# Altium footprint library LS044Q7DH01_back.PcbLib: 1 footprints
Each footprint in its own frame and in the unit in brackets; x right, y up, seen from the top. Pads: shape width x height; smd on the part's side, far side on the other; paste and mask are expansions set on the pad; w line width, h text height; cw(c..) or ccw(c..) is an arc to the next point about the centre after c.
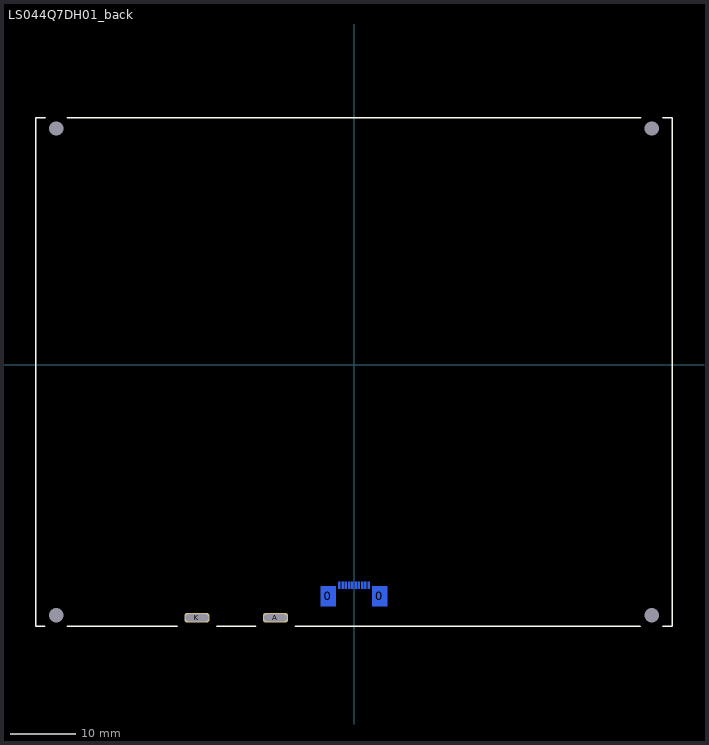
[diagram p0: the footprint, top view; thin cyan lines are the x and y axes]

## LS044Q7DH01_back [mm]
pads (18):
  rect 2.3x3.1 smd far side: 0(-3.92,-35.43) 0(3.92,-35.43)
  rect 0.3x1.1 smd far side mask+0.051: 1(2.25,-33.73) 2(1.75,-33.73) 3(1.25,-33.73) 4(0.75,-33.73) 5(0.25,-33.73) 6(-0.25,-33.73) 7(-0.75,-33.73) 8(-1.25,-33.73) 9(-1.75,-33.73) 10(-2.25,-33.73)
  rrect50% 3.86x1.4 / inner rrect50% 3.86x1.4 / far side rect 5x3 hole 1 slot 3.5 at 0 deg: A(-12,-38.7) K(-24,-38.7)
  round 0 hole 2.21 unplated: MH(-45.5,-38.33) MH(-45.5,36.07) MH(45.5,-38.33) MH(45.5,36.07)
Top Overlay:
  lines w0.254: -47.3,-40 -48.625,-40 -48.625,37.73 -47.2,37.73 ; -43.8,-40 -27,-40 ; -43.8,37.73 43.8,37.73 ; -21,-40 -15,-40 ; -9,-40 43.7,-40 ; 47.2,-40 48.625,-40 48.625,37.73 47.2,37.73
Bottom Overlay:
  circle w0.25: c2.973,-32.93 r0.127
  lines w0.2: -5.5,-34.03 -5.5,-38.43 ; 5.5,-34.03 5.5,-38.43 ; -5.5,-38.43 -5.5,-39.53 5.5,-39.53 5.5,-38.43 ; -5.5,-38.43 -4.1,-38.43 5.5,-38.43
3D body: height 0, standoff -4.75, extent -13,-39 -11,-38.4
3D body: height 2.8, standoff 0, extent -48.625,-40 48.625,37.73
3D body: height 0, standoff -2, extent -47.484,34.074 -43.5,38.066
3D body: height 0, standoff -2, extent -47.484,-40.326 -43.5,-36.334
3D body: height 0, standoff -2, extent 43.516,-40.326 47.5,-36.334
3D body: height 0, standoff -2, extent 43.516,34.074 47.5,38.066
3D body: height 0, standoff -4.75, extent -25,-39 -23,-38.4
3D body: height 2.07, standoff 0, extent -5.215,-38.445 5.215,-33.33